# Altium integrated library analog.IntLib: 78 symbols
Pins are listed as number, name and electrical type; pins without a type are passive.

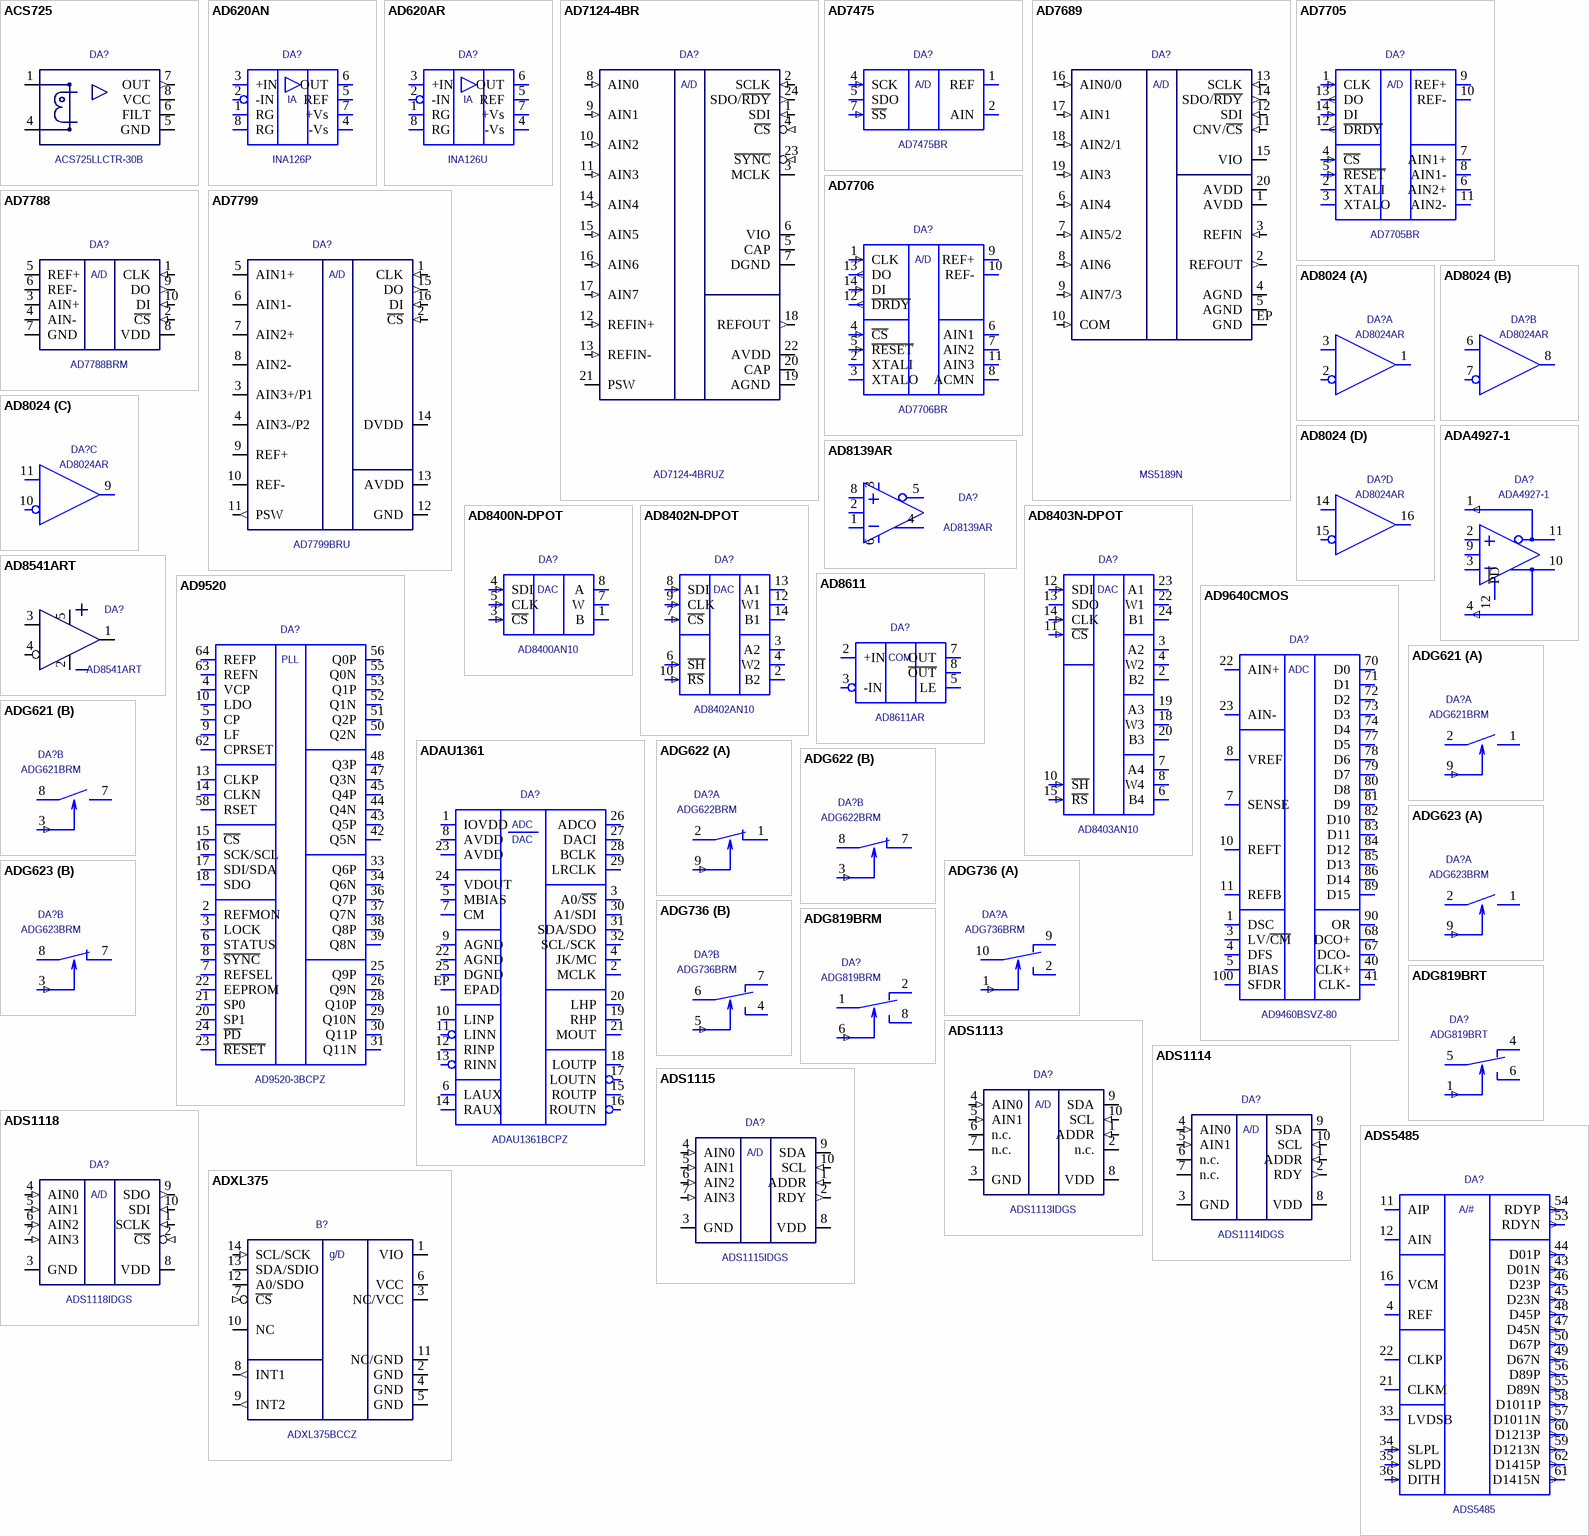
[diagram p0: symbols ACS725 to ADXL375]

## ACS725
designator DA?, comment ACS725LLCTR-30B
Current sensor; Value: ACS725LLCTR-30B
footprint SO8
pins: 1 CURR+, 2 CURR+, 3 CURR-, 4 CURR-, 5 GND (power), 6 FILT, 7 OUT (out), 8 VCC (power)

## AD620AN
designator DA?, comment INA126P
AD620AN; Value: INA126P
footprint DIP8
pins: 1 RG, 2 -IN, 3 +IN, 4 -Vs, 5 REF, 6 OUT, 7 +Vs, 8 RG
text: IA

## AD620AR
designator DA?, comment INA126U
AD620AR; Value: INA126U
footprint SO8
pins: 1 RG, 2 -IN, 3 +IN, 4 -Vs, 5 REF, 6 OUT, 7 +Vs, 8 RG
text: IA

## AD7124-4BR
designator DA?, comment AD7124-4BRUZ
ADC; Value: AD7124-4BRUZ
footprint TSSOP24
pins: 1 SDI (in), 2 SCLK (in), 3 MCLK (io), 4 ~{CS} (in), 5 CAP, 6 VIO (power), 7 DGND (power), 8 AIN0 (in), 9 AIN1 (in), 10 AIN2 (in), 11 AIN3 (in), 12 REFIN+ (in), 13 REFIN- (in), 14 AIN4 (in), 15 AIN5 (in), 16 AIN6 (in), 17 AIN7 (in), 18 REFOUT (out), 19 AGND (power), 20 CAP, 21 PSW (oc), 22 AVDD (power), 23 ~{SYNC} (in), 24 SDO/~{RDY} (out)
text: A/D

## AD7475
designator DA?, comment AD7475BR
SPI ADC; Value: AD7475BR
footprint SO8
footprint TSSOP8-4MM (0.65mm pitch)
pins: 1 REF, 2 AIN, 3 GND (power) hidden, 4 SCK (in), 5 SDO (hiz), 6 VCC (power) hidden, 7 ~{SS} (in), 8 VDD (power) hidden
text: A/D

## AD7689
designator DA?, comment MS5189N
ADC; Value: MS5189N
footprint MLF20
pins: 1 AVDD (power), 2 REFOUT (out), 3 REFIN (in), 4 AGND (power), 5 AGND (power), 6 AIN4 (in), 7 AIN5/2 (in), 8 AIN6 (in), 9 AIN7/3 (in), 10 COM (in), 11 CNV/~{CS} (in), 12 SDI (in), 13 SCLK (in), 14 SDO/~{RDY} (out), 15 VIO (power), 16 AIN0/0 (in), 17 AIN1 (in), 18 AIN2/1 (in), 19 AIN3 (in), 20 AVDD (power), EP GND
text: A/D

## AD7705
designator DA?, comment AD7705BR
AD7705; Value: AD7705BR
footprint SO16W
pins: 1 CLK (in), 2 XTALI, 3 XTALO, 4 ~{CS} (in), 5 ~{RESET} (in), 6 AIN2+, 7 AIN1+, 8 AIN1-, 9 REF+, 10 REF-, 11 AIN2-, 12 ~{DRDY} (out), 13 DO (out), 14 DI (in), 15 VDD (power) hidden, 16 AGND (power) hidden
text: A/D

## AD7706
designator DA?, comment AD7706BR
AD7706; Value: AD7706BR
footprint SO16W
pins: 1 CLK (in), 2 XTALI, 3 XTALO, 4 ~{CS} (in), 5 ~{RESET} (in), 6 AIN1, 7 AIN2, 8 ACMN, 9 REF+, 10 REF-, 11 AIN3, 12 ~{DRDY} (out), 13 DO (out), 14 DI (in), 15 VDD (power) hidden, 16 AGND (power) hidden
text: A/D

## AD7788
designator DA?, comment AD7788BRM
AD7788; Value: AD7788BRM
footprint MSOP10
pins: 1 CLK (in), 2 ~{CS} (in), 3 AIN+, 4 AIN-, 5 REF+, 6 REF-, 7 GND, 8 VDD, 9 DO (out), 10 DI (in)
text: A/D

## AD7799
designator DA?, comment AD7799BRU
24-bit ADC; Value: AD7799BRU
footprint TSSOP16
pins: 1 CLK (in), 2 ~{CS} (in), 3 AIN3+/P1, 4 AIN3-/P2, 5 AIN1+, 6 AIN1-, 7 AIN2+, 8 AIN2-, 9 REF+, 10 REF-, 11 PSW (out), 12 GND, 13 AVDD, 14 DVDD, 15 DO (out), 16 DI (in)
text: A/D

## AD8024
designator DA?, comment AD8024AR
AD8024; Value: AD8024AR
footprint SO16
pins on every part: 4 V+ (power) hidden, 5 GND (power) hidden, 12 GND (power) hidden, 13 V- (power) hidden
part A pins: 1 OUT, 2 IN-, 3 IN+
part B pins: 6 IN+, 7 IN-, 8 OUT
part C pins: 9 OUT, 10 IN-, 11 IN+
part D pins: 14 IN+, 15 IN-, 16 OUT

## AD8139AR
designator DA?
Value: AD8139AR
footprint SO8
pins: 1 IN-, 2 VOCM, 3 V+ (power), 4 OUT+, 5 OUT-, 6 V- (power), 7 hidden, 8 IN+

## AD8400N-DPOT
designator DA?, comment AD8400AN10
AD8400N-DPOT; Value: AD8400AN10
footprint DIP8
pins: 1 B, 2 GND (power) hidden, 3 ~{CS} (in), 4 SDI (in), 5 CLK (in), 6 VCC (power) hidden, 7 W, 8 A
text: DAC

## AD8402N-DPOT
designator DA?, comment AD8402AN10
AD8402N-DPOT; Value: AD8402AN10
footprint DIP14
pins: 1 GND (power) hidden, 2 B2, 3 A2, 4 W2, 5 GND (power) hidden, 6 ~{SH} (in), 7 ~{CS} (in), 8 SDI (in), 9 CLK (in), 10 ~{RS} (in), 11 VCC (power) hidden, 12 W1, 13 A1, 14 B1
text: DAC

## AD8403N-DPOT
designator DA?, comment AD8403AN10
AD8403N-DPOT; Value: AD8403AN10
footprint DIP24L
pins: 1 GND (power) hidden, 2 B2, 3 A2, 4 W2, 5 GND (power) hidden, 6 B4, 7 A4, 8 W4, 9 GND (power) hidden, 10 ~{SH} (in), 11 ~{CS} (in), 12 SDI (in), 13 SDO (oe), 14 CLK (in), 15 ~{RS} (in), 16 VCC (power) hidden, 17 GND (power) hidden, 18 W3, 19 A3, 20 B3, 21 GND (power) hidden, 22 W1, 23 A1, 24 B1
text: DAC

## AD8541ART
designator DA?
OpAmp SOT23-5; Value: AD8541ART
footprint SOT-23-5
pins: 1 OUT, 2 VDD- (power), 3 IN+, 4 IN-, 5 VDD+ (power)

## AD8611
designator DA?, comment AD8611AR
AD8611; Value: AD8611AR
footprint SO8
pins: 1 VDD (power) hidden, 2 +IN, 3 -IN, 4 AGND (power) hidden, 5 LE, 6 GND (power) hidden, 7 OUT, 8 ~{OUT}
text: COM

## AD9520
designator DA?, comment AD9520-3BCPZ
AD9520; Value: AD9520-3BCPZ
footprint MLF64
pins: 1 AVCC (power) hidden, 2 REFMON, 3 LOCK, 4 VCP, 5 CP, 6 STATUS, 7 REFSEL, 8 ~{SYNC}, 9 LF, 10 LDO, 11 AVCC (power) hidden, 12 AVCC (power) hidden, 13 CLKP, 14 CLKN, 15 ~{CS}, 16 SCK/SCL, 17 SDI/SDA, 18 SDO, 19 GND (power) hidden, 20 SP1, 21 SP0, 22 EEPROM, 23 ~{RESET}, 24 ~{PD}, 25 Q9P, 26 Q9N, 27 DVCC (power) hidden, 28 Q10P, 29 Q10N, 30 Q11P, 31 Q11N, 32 AVCC (power) hidden, 33 Q6P, 34 Q6N, 35 DVCC (power) hidden, 36 Q7P, 37 Q7N, 38 Q8P, 39 Q8N, 40 AVCC (power) hidden, 41 AVCC (power) hidden, 42 Q5N, 43 Q5P, 44 Q4N, 45 Q4P, 46 DVCC (power) hidden, 47 Q3N, 48 Q3P, 49 AVCC (power) hidden, 50 Q2N, 51 Q2P, 52 Q1N, 53 Q1P, 54 DVCC (power) hidden, 55 Q0N, 56 Q0P, 57 AVCC (power) hidden, 58 RSET, 59 GND (power) hidden, 60 AVCC (power) hidden, 61 AVCC (power) hidden, 62 CPRSET, 63 REFN, 64 REFP, EP GND (power) hidden
text: PLL

## AD9640CMOS
designator DA?, comment AD9460BSVZ-80
AD9640CMOS; Value: AD9460BSVZ-80
footprint TQFP100
pins: 1 DSC, 2 hidden, 3 LV/~{CM}, 4 DFS, 5 BIAS, 6 AVDD1 (power) hidden, 7 SENSE, 8 VREF, 9 AGND (power) hidden, 10 REFT, 11 REFB, 12 AVDD2 (power) hidden, 13 AVDD2 (power) hidden, 14 AVDD2 (power) hidden, 15 AVDD2 (power) hidden, 16 AVDD2 (power) hidden, 17 AVDD2 (power) hidden, 18 AVDD1 (power) hidden, 19 AVDD1 (power) hidden, 20 AVDD1 (power) hidden, 21 AGND (power) hidden, 22 AIN+, 23 AIN-, 24 AGND (power) hidden, 25 AVDD2 (power) hidden, 26 AVDD2 (power) hidden, 27 AVDD2 (power) hidden, 28 AVDD2 (power) hidden, 29 AVDD2 (power) hidden, 30 AVDD2 (power) hidden, 31 AVDD2 (power) hidden, 32 AVDD1 (power) hidden, 33 AVDD1 (power) hidden, 34 AVDD1 (power) hidden, 35 AVDD2 (power) hidden, 36 AVDD1 (power) hidden, 37 AVDD2 (power) hidden, 38 AVDD1 (power) hidden, 39 AGND (power) hidden, 40 CLK+, 41 CLK-, 42 AGND (power) hidden, 43 AVDD1 (power) hidden, 44 AVDD1 (power) hidden, 45 AVDD1 (power) hidden, 46 AGND (power) hidden, 47 GND (power) hidden, 48 VCC (power) hidden, 49 hidden, 50 hidden, 51 hidden, 52 hidden, 53 hidden, 54 hidden, 55 hidden, 56 hidden, 57 hidden, 58 hidden, 59 hidden, 60 hidden, 61 hidden, 62 hidden, 63 GND (power) hidden, 64 VCC (power) hidden, 65 hidden, 66 hidden, 67 DCO-, 68 DCO+, 69 hidden, 70 D0, 71 D1, 72 D2, 73 D3, 74 D4, 75 GND (power) hidden, 76 VCC (power) hidden, 77 D5, 78 D6, 79 D7, 80 D8, 81 D9, 82 D10, 83 D11, 84 D12, 85 D13, 86 D14, 87 GND (power) hidden, 88 VCC (power) hidden, 89 D15, 90 OR, 91 AGND (power) hidden, 92 AVDD1 (power) hidden, 93 AVDD1 (power) hidden, 94 AVDD1 (power) hidden, 95 AVDD1 (power) hidden, 96 AVDD1 (power) hidden, 97 AVDD1 (power) hidden, 98 AGND (power) hidden, 99 AGND (power) hidden, 100 SFDR
text: ADC

## ADA4927-1
designator DA?
Value: ADA4927-1
footprint MLF16
pins: 1 FB- (out), 2 IN+, 3 IN-, 4 FB+ (out), 5 +VA (power) hidden, 6 +VA (power) hidden, 7 +VA (power) hidden, 8 +VA (power) hidden, 9 VCM, 10 OUT+ (out), 11 OUT- (out), 12 ~{PD} (in), 13 -VA (power) hidden, 14 -VA (power) hidden, 15 -VA (power) hidden, 16 -VA (power) hidden, EP GND (power) hidden

## ADAU1361
designator DA?, comment ADAU1361BCPZ
ADAU1361; Value: ADAU1361BCPZ
footprint MLF32
footprint MLF32E
pins: 1 IOVDD, 2 MCLK, 3 A0/~{SS}, 4 JK/MC, 5 MBIAS, 6 LAUX, 7 CM, 8 AVDD, 9 AGND, 10 LINP, 11 LINN, 12 RINP, 13 RINN, 14 RAUX, 15 ROUTP, 16 ROUTN, 17 LOUTN, 18 LOUTP, 19 RHP, 20 LHP, 21 MOUT, 22 AGND, 23 AVDD, 24 VDOUT, 25 DGND, 26 ADCO, 27 DACI, 28 BCLK, 29 LRCLK, 30 A1/SDI, 31 SDA/SDO, 32 SCL/SCK, EP EPAD
text: ADC; DAC

## ADG621
designator DA?, comment ADG621BRM
ADG621; Value: ADG621BRM
footprint MSOP10
pins on every part: 4 GND (power) hidden, 5 -V (power) hidden, 6 hidden, 10 +V (power) hidden
part A pins: 1 S, 2 D, 9 IN (in)
part B pins: 3 IN (in), 7 S, 8 D

## ADG622
designator DA?, comment ADG622BRM
ADG622; Value: ADG622BRM
footprint MSOP10
pins on every part: 4 GND (power) hidden, 5 -V (power) hidden, 6 hidden, 10 +V (power) hidden
part A pins: 1 S, 2 D, 9 IN (in)
part B pins: 3 IN (in), 7 S, 8 D

## ADG623
designator DA?, comment ADG623BRM
ADG623; Value: ADG623BRM
footprint MSOP10
pins on every part: 4 GND (power) hidden, 5 -V (power) hidden, 6 hidden, 10 +V (power) hidden
part A pins: 1 S, 2 D, 9 IN (in)
part B pins: 3 IN (in), 7 S, 8 D

## ADG736
designator DA?, comment ADG736BRM
ADG736; Value: ADG736BRM
footprint MSOP10
pins on every part: 3 GND (power) hidden, 8 VDD (power) hidden
part A pins: 1 IN (in), 2 NO, 9 NC, 10 D
part B pins: 4 NO, 5 IN (in), 6 D, 7 NC

## ADG819BRM
designator DA?
Value: ADG819BRM
footprint TSSOP8-4MM (0.65mm pitch)
pins: 1 D, 2 S1, 3 GND (power) hidden, 4 VDD (power) hidden, 5 hidden, 6 IN (in), 7 hidden, 8 S2

## ADG819BRT
designator DA?
Value: ADG819BRT
footprint SOT-23-6
pins: 1 IN (in), 2 VDD (power) hidden, 3 GND (power) hidden, 4 S1, 5 D, 6 S2

## ADS1113
designator DA?, comment ADS1113IDGS
ADC sigma-delta; Value: ADS1113IDGS
footprint MSOP10
pins: 1 ADDR (in), 2 n.c., 3 GND (power), 4 AIN0 (in), 5 AIN1 (in), 6 n.c., 7 n.c., 8 VDD (power), 9 SDA (io), 10 SCL (in)
text: A/D

## ADS1114
designator DA?, comment ADS1114IDGS
ADC sigma-delta; Value: ADS1114IDGS
footprint MSOP10
pins: 1 ADDR (in), 2 RDY (out), 3 GND (power), 4 AIN0 (in), 5 AIN1 (in), 6 n.c., 7 n.c., 8 VDD (power), 9 SDA (io), 10 SCL (in)
text: A/D

## ADS1115
designator DA?, comment ADS1115IDGS
ADC 2/4ch sigma-delta; Value: ADS1115IDGS
footprint MSOP10
pins: 1 ADDR (in), 2 RDY (out), 3 GND (power), 4 AIN0 (in), 5 AIN1 (in), 6 AIN2 (in), 7 AIN3 (in), 8 VDD (power), 9 SDA (io), 10 SCL (in)
text: A/D

## ADS1118
designator DA?, comment ADS1118IDGS
ADC 2/4ch sigma-delta; Value: ADS1118IDGS
footprint MSOP10
pins: 1 SCLK (in), 2 ~{CS} (in), 3 GND (power), 4 AIN0 (in), 5 AIN1 (in), 6 AIN2 (in), 7 AIN3 (in), 8 VDD (power), 9 SDO (out), 10 SDI (in)
text: A/D

## ADS5485
designator DA?
Value: ADS5485
footprint MLF64
pins: 1 AV5 (power) hidden, 2 AV5 (power) hidden, 3 AGND (power) hidden, 4 REF, 5 hidden, 6 hidden, 7 AGND (power) hidden, 8 AV5 (power) hidden, 9 AV3 (power) hidden, 10 AGND (power) hidden, 11 AIP, 12 AIN, 13 AGND (power) hidden, 14 AV5 (power) hidden, 15 AV3 (power) hidden, 16 VCM, 17 AGND (power) hidden, 18 AV5 (power) hidden, 19 AV3 (power) hidden, 20 AGND (power) hidden, 21 CLKM, 22 CLKP, 23 AGND (power) hidden, 24 AV5 (power) hidden, 25 AV3 (power) hidden, 26 AGND (power) hidden, 27 AV5 (power) hidden, 28 AV3 (power) hidden, 29 AGND (power) hidden, 30 AV5 (power) hidden, 31 AV3 (power) hidden, 32 AGND (power) hidden, 33 LVDSB, 34 SLPL (in), 35 SLPD (in), 36 DITH (in), 37 hidden, 38 hidden, 39 hidden, 40 hidden, 41 DGND (power) hidden, 42 DV3 (power) hidden, 43 D01N (out), 44 D01P (out), 45 D23N (out), 46 D23P (out), 47 D45N (out), 48 D45P (out), 49 D67N (out), 50 D67P (out), 51 DGND (power) hidden, 52 DV3 (power) hidden, 53 RDYN (out), 54 RDYP (out), 55 D89N (out), 56 D89P (out), 57 D1011N (out), 58 D1011P (out), 59 D1213N (out), 60 D1213P (out), 61 D1415N (out), 62 D1415P (out), 63 DV3 (power) hidden, 64 DGND (power) hidden, EP AGND (power) hidden
text: A/#

## ADXL375
designator B?, comment ADXL375BCCZ
Accelerometer 3-axes; Value: ADXL375BCCZ
footprint LGA14-0.8
pins: 1 VIO (power), 2 GND (power), 3 NC/VCC (power), 4 GND (power), 5 GND (power), 6 VCC (power), 7 ~{CS} (in), 8 INT1 (out), 9 INT2 (out), 10 NC (power), 11 NC/GND (power), 12 A0/SDO (io), 13 SDA/SDIO (io), 14 SCL/SCK (in)
text: g/D

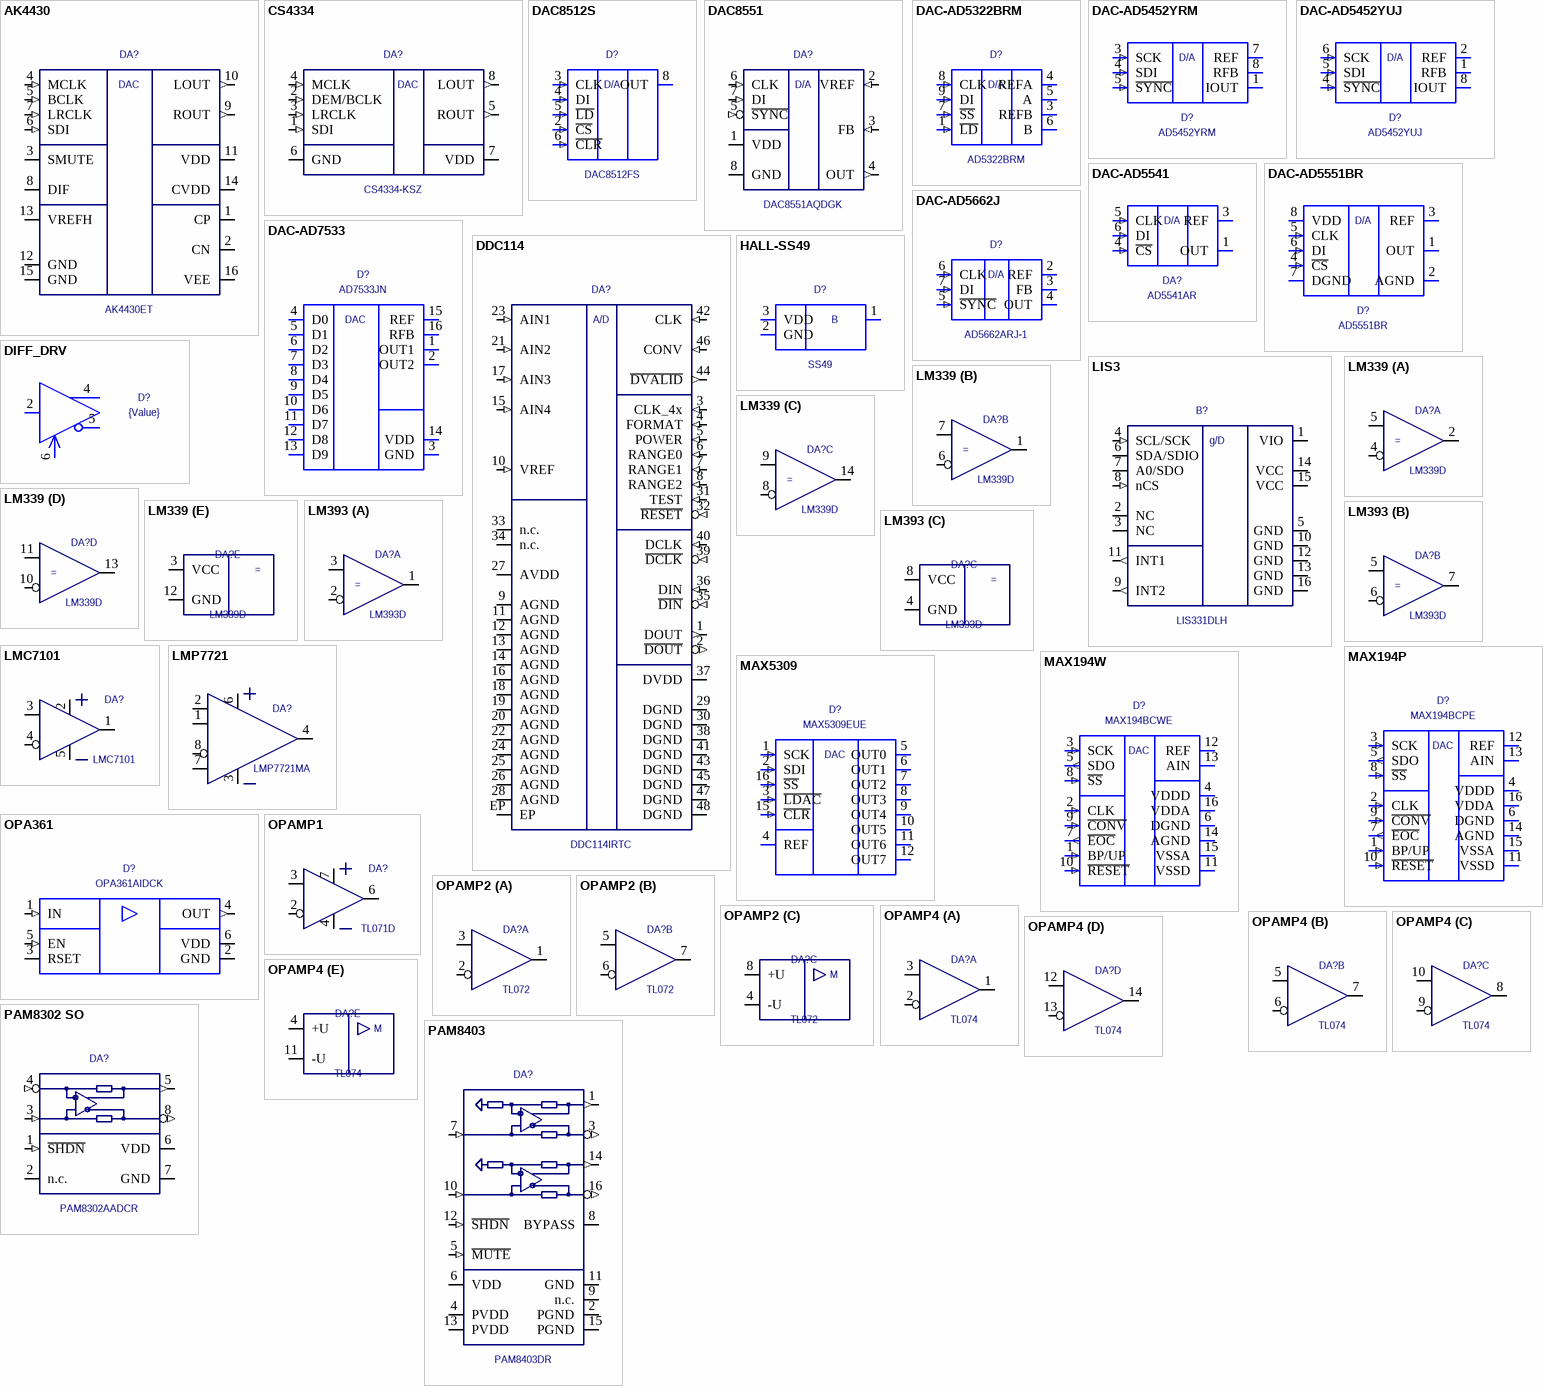
[diagram p1: symbols AK4430 to PAM8403]

## AK4430
designator DA?, comment AK4430ET
Stereo DAC; Value: AK4430ET
footprint TSSOP16
pins: 1 CP, 2 CN, 3 SMUTE, 4 MCLK (in), 5 BCLK (in), 6 SDI (in), 7 LRCLK (in), 8 DIF, 9 ROUT (out), 10 LOUT (out), 11 VDD, 12 GND, 13 VREFH, 14 CVDD, 15 GND, 16 VEE
text: DAC

## CS4334
designator DA?, comment CS4334-KSZ
Stereo DAC; Value: CS4334-KSZ
footprint SO8
pins: 1 SDI (in), 2 DEM/BCLK (in), 3 LRCLK (in), 4 MCLK (in), 5 ROUT (out), 6 GND, 7 VDD, 8 LOUT (out)
text: DAC

## DAC8512S
designator D?  value DAC8512FS  (hidden comment: *)
DAC8512S
footprint SO8
pins: 1 VDD (power) hidden, 2 ~{CS} (in), 3 CLK (in), 4 DI (in), 5 ~{LD} (in), 6 ~{CLR} (in), 7 GND (power) hidden, 8 OUT
text: D/A

## DAC8551
designator DA?, comment DAC8551AQDGK
DAC SPI 16bit; Value: DAC8551AQDGK
footprint TSSOP8-4MM (0.65mm pitch)
pins: 1 VDD (power), 2 VREF (in), 3 FB (in), 4 OUT (out), 5 ~{SYNC} (in), 6 CLK (in), 7 DI (in), 8 GND (power)
text: D/A

## DAC-AD5322BRM
designator D?, comment AD5322BRM
Value: AD5322BRM
footprint MSOP10
pins: 1 ~{LD} (in), 2 VDD (power) hidden, 3 REFB, 4 REFA, 5 A, 6 B, 7 ~{SS} (in), 8 CLK (in), 9 DI (in), 10 GND (power) hidden
text: D/A

## DAC-AD5452YRM
designator D?, comment AD5452YRM
Value: AD5452YRM
footprint TSSOP8-4MM (0.65mm pitch)
pins: 1 IOUT, 2 GND (power) hidden, 3 SCK (in), 4 SDI (in), 5 ~{SYNC} (in), 6 VCC (power) hidden, 7 REF, 8 RFB
text: D/A

## DAC-AD5452YUJ
designator D?, comment AD5452YUJ
Value: AD5452YUJ
footprint SOT-23-8
pins: 1 RFB, 2 REF, 3 VCC (power) hidden, 4 ~{SYNC} (in), 5 SDI (in), 6 SCK (in), 7 GND (power) hidden, 8 IOUT
text: D/A

## DAC-AD5541
designator DA?  value AD5541AR  (hidden comment: *)
AD5541BR
footprint SO8
footprint TSSOP8-4MM (0.65mm pitch)
pins: 1 OUT, 2 AGND (power) hidden, 3 REF, 4 ~{CS} (in), 5 CLK (in), 6 DI (in), 7 GND (power) hidden, 8 VDD (power) hidden
text: D/A

## DAC-AD5551BR
designator D?, comment AD5551BR
Value: AD5551BR
footprint SO8
pins: 1 OUT, 2 AGND (power), 3 REF, 4 ~{CS} (in), 5 CLK (in), 6 DI (in), 7 DGND (power), 8 VDD (power)
text: D/A

## DAC-AD5662J
designator D?, comment value AD5662ARJ-1  (hidden comment: AD5662J)
footprint SOT-23-8
pins: 1 VDD (power) hidden, 2 REF, 3 FB, 4 OUT, 5 ~{SYNC} (in), 6 CLK (in), 7 DI (in), 8 GND (power) hidden
text: D/A

## DAC-AD7533
designator D?, comment value AD7533JN  (hidden comment: AD7533)
footprint DIP16
pins: 1 OUT1, 2 OUT2, 3 GND, 4 D0, 5 D1, 6 D2, 7 D3, 8 D4, 9 D5, 10 D6, 11 D7, 12 D8, 13 D9, 14 VDD, 15 REF, 16 RFB
text: DAC

## DDC114
designator DA?, comment DDC114IRTC
ADC; Value: DDC114IRTC
footprint MLF48-7mm
pins: 1 DOUT (out), 2 ~{DOUT} (out), 3 CLK_4x (in), 4 FORMAT (in), 5 POWER (in), 6 RANGE0 (in), 7 RANGE1 (in), 8 RANGE2 (in), 9 AGND (power), 10 VREF (in), 11 AGND (power), 12 AGND (power), 13 AGND (power), 14 AGND (power), 15 AIN4 (in), 16 AGND (power), 17 AIN3 (in), 18 AGND (power), 19 AGND (power), 20 AGND (power), 21 AIN2 (in), 22 AGND (power), 23 AIN1 (in), 24 AGND (power), 25 AGND (power), 26 AGND (power), 27 AVDD (power), 28 AGND (power), 29 DGND (power), 30 DGND (power), 31 TEST (in), 32 ~{RESET} (in), 33 n.c. (power), 34 n.c. (power), 35 ~{DIN} (in), 36 DIN (in), 37 DVDD (power), 38 DGND (power), 39 ~{DCLK} (in), 40 DCLK (in), 41 DGND (power), 42 CLK (in), 43 DGND (power), 44 ~{DVALID} (out), 45 DGND (power), 46 CONV (in), 47 DGND (power), 48 DGND (power), EP (power)
text: A/D

## DIFF_DRV
designator D?  value {Value}  (hidden comment: DIFF_DRV)
footprint SO8
pins: 1 hidden, 2 IN+, 3 hidden, 4 OUT, 5 OUT, 6 IN+, 7 hidden, 8 hidden

## HALL-SS49
designator D?, comment SS49
Value: SS49
footprint TO-92
pins: 1 OUT, 2 GND, 3 VDD
text: B

## LIS3
designator B?, comment LIS331DLH
Accelerometer 3-axes; Value: LIS331DLH
footprint LGA16-0.5
pins: 1 VIO (power), 2 NC (power), 3 NC (power), 4 SCL/SCK (in), 5 GND (power), 6 SDA/SDIO (io), 7 A0/SDO (io), 8 nCS (in), 9 INT2 (out), 10 GND (power), 11 INT1 (out), 12 GND (power), 13 GND (power), 14 VCC (power), 15 VCC (power), 16 GND (power)
text: g/D

## LM339
designator DA?, comment LM339D
Quad comparator; Value: LM339D
footprint SO14
footprint DIP14
part A pins: 2 OUT (oc), 4 -IN, 5 +IN
part B pins: 1 OUT (oc), 6 -IN, 7 +IN
part C pins: 8 -IN, 9 +IN, 14 OUT (oc)
part D pins: 10 -IN, 11 +IN, 13 OUT (oc)
part E pins: 3 VCC (power), 12 GND (power)

## LM393
designator DA?, comment LM393D
Dual comparator; Value: LM393D
footprint SO8
footprint DIP8
part A pins: 1 OUT (oc), 2 IN-, 3 IN+
part B pins: 5 IN+, 6 IN-, 7 OUT (oc)
part C pins: 4 GND (power), 8 VCC (power)

## LMC7101
designator DA?
OpAmp SOT23-5; Value: LMC7101
footprint SOT-23-5
pins: 1 OUT, 2 VDD+, 3 IN+, 4 IN-, 5 VDD-

## LMP7721
designator DA?, comment LMP7721MA
OpAmp pA; Value: LMP7721MA
footprint SO8
pins: 1 IN+, 2 G, 3 VDD- (power), 4 OUT, 6 VDD+, 7 G, 8 IN-

## MAX194P
designator D?  value MAX194BCPE  (hidden comment: MAX194P)
footprint DIP16
pins: 1 BP/UP (in), 2 CLK (in), 3 SCK (in), 4 VDDD (power), 5 SDO (out), 6 DGND (power), 7 ~{EOC} (out), 8 ~{SS} (in), 9 ~{CONV} (in), 10 ~{RESET} (in), 11 VSSD (power), 12 REF, 13 AIN, 14 AGND (power), 15 VSSA (power), 16 VDDA (power)
text: DAC

## MAX194W
designator D?  value MAX194BCWE  (hidden comment: MAX194W)
footprint SO16W
pins: 1 BP/UP (in), 2 CLK (in), 3 SCK (in), 4 VDDD (power), 5 SDO (out), 6 DGND (power), 7 ~{EOC} (out), 8 ~{SS} (in), 9 ~{CONV} (in), 10 ~{RESET} (in), 11 VSSD (power), 12 REF, 13 AIN, 14 AGND (power), 15 VSSA (power), 16 VDDA (power)
text: DAC

## MAX5309
designator D?  value MAX5309EUE  (hidden comment: MAX5309)
footprint TSSOP16
pins: 1 SCK (in), 2 SDI (in), 3 ~{LDAC} (in), 4 REF, 5 OUT0, 6 OUT1, 7 OUT2, 8 OUT3, 9 OUT4, 10 OUT5, 11 OUT6, 12 OUT7, 13 GND (power) hidden, 14 VDD (power) hidden, 15 ~{CLR} (in), 16 ~{SS} (in)
text: DAC

## OPA361
designator D?, comment OPA361AIDCK
Value: OPA361AIDCK
footprint SC-70-6
pins: 1 IN (in), 2 GND (power), 3 RSET, 4 OUT (out), 5 EN (in), 6 VDD (power)

## OPAMP1
designator DA?, comment TL071D
OpAmp DIP/SO8; Value: TL071D
footprint SO8
footprint DIP8
pins: 2 IN-, 3 IN+, 4 VDD- (power), 6 OUT, 7 VDD+ (power)

## OPAMP2
designator DA?, comment TL072
Dual op.amp.; Value: TL072
footprint SO8
footprint DIP8
footprint TSSOP8-4MM (0.65mm pitch)
part A pins: 1 OUT, 2 INn, 3 INp
part B pins: 5 INp, 6 INn, 7 OUT
part C pins: 4 -U (power), 8 +U (power)
part C text: M

## OPAMP4
designator DA?, comment TL074
Quad op.amp.; Value: TL074
footprint SO14
footprint DIP14
footprint TSSOP14
part A pins: 1 OUT, 2 -IN, 3 +IN
part B pins: 5 +IN, 6 -IN, 7 OUT
part C pins: 8 OUT, 9 -IN, 10 +IN
part D pins: 12 +IN, 13 -IN, 14 OUT
part E pins: 4 +U (power), 11 -U (power)
part E text: M

## PAM8302 SO
designator DA?, comment PAM8302AADCR
1-3W amp; Value: PAM8302AADCR
footprint SO8
footprint TSSOP8-4MM (0.65mm pitch)
pins: 1 ~{SHDN} (in), 2 n.c., 3 INP (in), 4 INN (in), 5 OUTP (out), 6 VDD (power), 7 GND (power), 8 OUTN (out)

## PAM8403
designator DA?, comment PAM8403DR
1-3W stereo amp; Value: PAM8403DR
footprint SO16
pins: 1 OUTP (out), 2 PGND (power), 3 OUTN (out), 4 PVDD (power), 5 ~{MUTE} (in), 6 VDD (power), 7 INP (in), 8 BYPASS, 9 n.c. (power), 10 INP (in), 11 GND (power), 12 ~{SHDN} (in), 13 PVDD (power), 14 OUTP (out), 15 PGND (power), 16 OUTN (out)

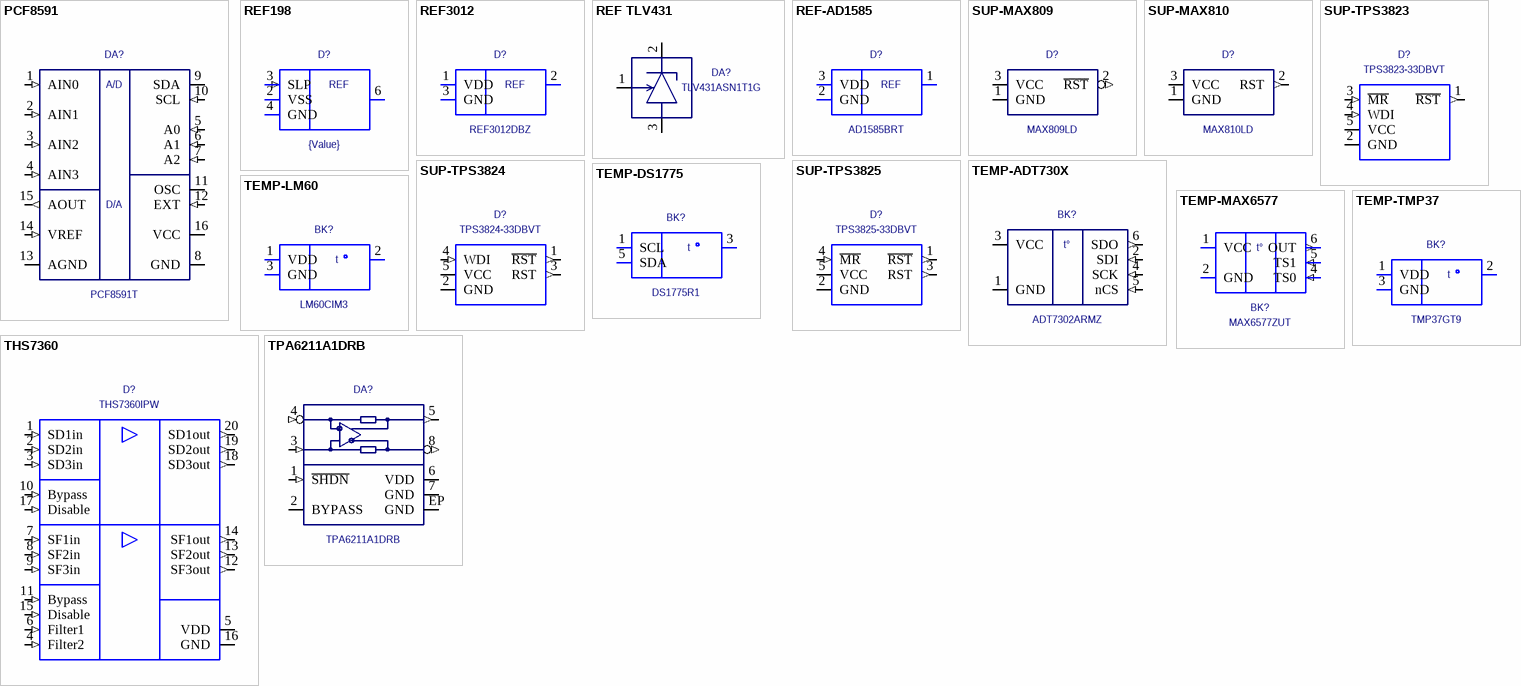
[diagram p2: symbols PCF8591 to TPA6211A1DRB]

## PCF8591
designator DA?, comment PCF8591T
ADC; Value: PCF8591T
footprint SO16W
footprint DIP16
pins: 1 AIN0 (in), 2 AIN1 (in), 3 AIN2 (in), 4 AIN3 (in), 5 A0 (in), 6 A1 (in), 7 A2 (in), 8 GND (power), 9 SDA (io), 10 SCL (in), 11 OSC (io), 12 EXT (in), 13 AGND (power), 14 VREF (in), 15 AOUT (out), 16 VCC (power)
text: A/D; D/A

## REF198
designator D?  value {Value}  (hidden comment: REF198)
footprint SO8
pins: 1 hidden, 2 VSS (power), 3 SLP (in), 4 GND (power), 5 hidden, 6 OUT, 7 hidden, 8 hidden
text: REF

## REF3012
designator D?  value REF3012DBZ  (hidden comment: REF3012)
footprint SOT-23
pins: 1 VDD (power), 2 OUT, 3 GND (power)
text: REF

## REF TLV431
designator DA?, comment TLV431ASN1T1G
Shunt reference SOT23; Value: TLV431ASN1T1G
footprint SOT-23 (0.95mm pitch)
pins: 1 REF, 2 C, 3 A

## REF-AD1585
designator D?, comment AD1585BRT
AD1585; Value: AD1585BRT
footprint SOT-23
pins: 1 OUT, 2 GND (power), 3 VDD (power)
text: REF

## SUP-MAX809
designator D?, comment MAX809LD
Supervisor neg.reset; Value: MAX809LD
footprint SOT-23
pins: 1 GND (power), 2 ~{RST} (out), 3 VCC (power)

## SUP-MAX810
designator D?, comment MAX810LD
Supervisor pos.reset; Value: MAX810LD
footprint SOT-23
pins: 1 GND (power), 2 RST (out), 3 VCC (power)

## SUP-TPS3823
designator D?  value TPS3823-33DBVT  (hidden comment: SUP-TPS3823)
footprint SOT-23-5
pins: 1 ~{RST} (out), 2 GND (power), 3 ~{MR} (in), 4 WDI (in), 5 VCC (power)

## SUP-TPS3824
designator D?  value TPS3824-33DBVT  (hidden comment: SUP-TPS3824)
footprint SOT-23-5
pins: 1 ~{RST} (out), 2 GND (power), 3 RST (out), 4 WDI (in), 5 VCC (power)

## SUP-TPS3825
designator D?  value TPS3825-33DBVT  (hidden comment: SUP-TPS3825)
footprint SOT-23-5
pins: 1 ~{RST} (out), 2 GND (power), 3 RST (out), 4 ~{MR} (in), 5 VCC (power)

## TEMP-ADT730X
designator BK?, comment ADT7302ARMZ
Temperature sensor; Value: ADT7302ARMZ
footprint SOT-23-6
pins: 1 GND (power), 2 SDI (in), 3 VCC (power), 4 SCK (in), 5 nCS (in), 6 SDO (out)
text: t°

## TEMP-DS1775
designator BK?, comment DS1775R1
DS1775; Value: DS1775R1
footprint SOT-23-5
pins: 1 SCL (oe), 2 GND (power) hidden, 3 (oe), 4 VCC (power) hidden, 5 SDA (oe)
text: t

## TEMP-LM60
designator BK?, comment LM60CIM3
LM60; Value: LM60CIM3
footprint SOT-23
pins: 1 VDD, 2 OUT, 3 GND
text: t

## TEMP-MAX6577
designator BK?, comment MAX6577ZUT
MAX6577; Value: MAX6577ZUT
footprint SOT-23-6
pins: 1 VCC (power), 2 GND (power), 3 hidden, 4 TS0 (in), 5 TS1 (in), 6 OUT (out)
text: t°

## TEMP-TMP37
designator BK?, comment value TMP37GT9  (hidden comment: TMP37)
footprint TO-92
pins: 1 VDD, 2 OUT, 3 GND
text: t

## THS7360
designator D?, comment THS7360IPW
Value: THS7360IPW
footprint TSSOP20
pins: 1 SD1in (in), 2 SD2in (in), 3 SD3in (in), 4 Filter2 (in), 5 VDD (power), 6 Filter1 (in), 7 SF1in (in), 8 SF2in (in), 9 SF3in (in), 10 Bypass (in), 11 Bypass (in), 12 SF3out (out), 13 SF2out (out), 14 SF1out (out), 15 Disable (in), 16 GND (power), 17 Disable (in), 18 SD3out (out), 19 SD2out (out), 20 SD1out (out)

## TPA6211A1DRB
designator DA?
1-3W amp; Value: TPA6211A1DRB
footprint PVSON-8 (0.65mm pitch)
pins: 1 ~{SHDN} (in), 2 BYPASS, 3 INP (in), 4 INN (in), 5 OUTP (out), 6 VDD (power), 7 GND (power), 8 OUTN (out), EP GND (power), EP9 GND (power), EP10 GND (power), EP11 GND (power), EP12 GND (power)